# Altium footprint library WS-DITU.PcbLib: 6 footprints
Each footprint in its own frame and in the unit in brackets; x right, y up, seen from the top. Pads: shape width x height; smd on the part's side, far side on the other; paste and mask are expansions set on the pad; w line width, h text height; cw(c..) or ccw(c..) is an arc to the next point about the centre after c.
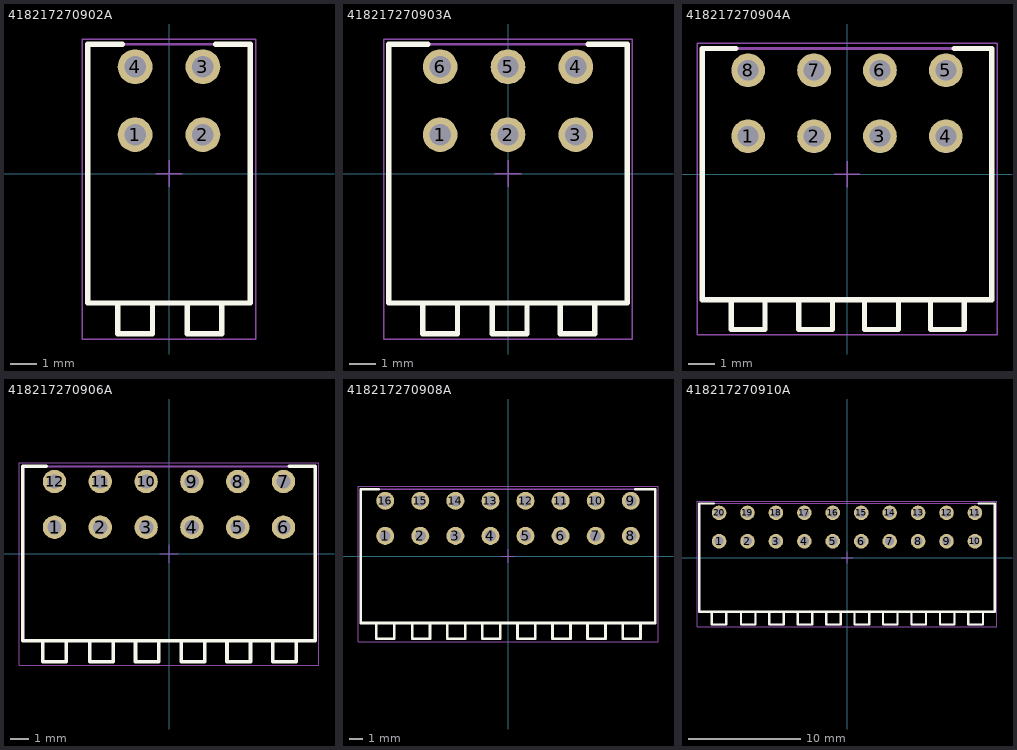
[diagram p0: the footprints below, top view; thin cyan lines are the x and y axes]

## 418217270902A [mm] "2.54 mm compact THT right angled DIP Switch with raised actuator, 2p"
height 9.9
pads (4):
  round 1.3 hole 0.8: 1(-1.27,1.46) 2(1.27,1.46) 3(1.27,4) 4(-1.27,4)
Top Overlay:
  lines w0.2: -1.92,-4.84 -1.92,-5.99 -0.62,-5.99 -0.62,-4.84 ; -1.74,4.84 -3.04,4.84 -3.04,-4.84 3.04,-4.84 3.04,4.84 1.74,4.84 ; 0.68,-4.84 0.68,-5.99 1.98,-5.99 1.98,-4.84
Top Designator:
  text ".Designator" at -7.498,-0.5 h1.5
Top Component Outline:
  lines w0.1: -1.92,-4.84 -1.92,-5.99 -0.62,-5.99 -0.62,-4.84 ; 0.68,-4.84 0.68,-5.99 1.98,-5.99 1.98,-4.84 ; -3.04,-4.84 3.04,-4.84 3.04,4.84 -3.04,4.84 -3.04,-4.84
Top Courtyard:
  lines w0.05: -0.5,0 0.5,0 ; 0,-0.5 0,0.5 ; -3.24,-6.19 -3.24,5.04 3.24,5.04 3.24,-6.19 -3.24,-6.19
3D body "418217270902A.stp": height 9.95, standoff -3.05, extent -3.04,-5.99 3.04,4.84

## 418217270903A [mm] "2.54 mm compact THT right angled DIP Switch with raised actuator, 3p"
height 9.9
pads (6):
  round 1.3 hole 0.8: 1(-2.54,1.46) 2(0,1.46) 3(2.54,1.46) 4(2.54,4) 5(0,4) 6(-2.54,4)
Top Overlay:
  lines w0.2: -3.19,-4.84 -3.19,-5.99 -1.89,-5.99 -1.89,-4.84 ; -3.01,4.84 -4.46,4.84 -4.46,-4.84 4.46,-4.84 4.46,4.84 3.01,4.84 ; -0.59,-4.84 -0.59,-5.99 0.71,-5.99 0.71,-4.84 ; 1.95,-4.84 1.95,-5.99 3.25,-5.99 3.25,-4.84
Top Designator:
  text ".Designator" at -7.498,-0.5 h1.5
Top Component Outline:
  lines w0.1: -3.19,-4.84 -3.19,-5.99 -1.89,-5.99 -1.89,-4.84 ; -0.59,-4.84 -0.59,-5.99 0.71,-5.99 0.71,-4.84 ; 1.95,-4.84 1.95,-5.99 3.25,-5.99 3.25,-4.84 ; -4.46,-4.84 -4.46,4.84 4.46,4.84 4.46,-4.84 -4.46,-4.84
Top Courtyard:
  lines w0.05: -0.5,0 0.5,0 ; 0,-0.5 0,0.5 ; -4.66,-6.19 4.66,-6.19 4.66,5.04 -4.66,5.04 -4.66,-6.19
3D body "418217270903A.stp": height 9.95, standoff -3.05, extent -4.46,-5.99 4.46,4.84

## 418217270904A [mm] "2.54 mm compact THT right angled DIP Switch with raised actuator, 4p"
height 9.9
pads (8):
  round 1.3 hole 0.8: 1(-3.81,1.46) 2(-1.27,1.46) 3(1.27,1.46) 4(3.81,1.46) 5(3.81,4) 6(1.27,4) 7(-1.27,4) 8(-3.81,4)
Top Overlay:
  lines w0.2: -4.46,-4.84 -4.46,-5.99 -3.16,-5.99 -3.16,-4.84 ; -4.28,4.84 -5.58,4.84 -5.58,-4.84 5.58,-4.84 5.58,4.84 4.13,4.84 ; -1.86,-4.84 -1.86,-5.99 -0.56,-5.99 -0.56,-4.84 ; 0.68,-4.84 0.68,-5.99 1.98,-5.99 1.98,-4.84 ; 3.22,-4.84 3.22,-5.99 4.52,-5.99 4.52,-4.84
Top Designator:
  text ".Designator" at -7.498,-0.5 h1.5
Top Component Outline:
  lines w0.1: -4.46,-4.84 -4.46,-5.99 -3.16,-5.99 -3.16,-4.84 ; -1.86,-4.84 -1.86,-5.99 -0.56,-5.99 -0.56,-4.84 ; 0.68,-4.84 0.68,-5.99 1.98,-5.99 1.98,-4.84 ; 3.22,-4.84 3.22,-5.99 4.52,-5.99 4.52,-4.84 ; -5.58,-4.84 5.58,-4.84 5.58,4.84 -5.58,4.84 -5.58,-4.84
Top Courtyard:
  lines w0.05: -0.5,0 0.5,0 ; 0,-0.5 0,0.5 ; -5.78,-6.19 -5.78,5.04 5.78,5.04 5.78,-6.19 -5.78,-6.19
3D body "418217270904A.stp": height 9.95, standoff -3.05, extent -5.58,-5.99 5.58,4.84

## 418217270906A [mm] "2.54 mm compact THT right angled DIP Switch with raised actuator, 6p"
height 9.9
pads (12):
  round 1.3 hole 0.8: 1(-6.35,1.46) 2(-3.81,1.46) 3(-1.27,1.46) 4(1.27,1.46) 5(3.81,1.46) 6(6.35,1.46) 7(6.35,4) 8(3.81,4) 9(1.27,4) 10(-1.27,4) 11(-3.81,4) 12(-6.35,4)
Top Overlay:
  lines w0.2: -7,-4.84 -7,-5.99 -5.7,-5.99 -5.7,-4.84 ; -6.82,4.84 -8.12,4.84 -8.12,-4.84 8.12,-4.84 8.12,4.84 6.67,4.84 ; -4.4,-4.84 -4.4,-5.99 -3.1,-5.99 -3.1,-4.84 ; -1.86,-4.84 -1.86,-5.99 -0.56,-5.99 -0.56,-4.84 ; 0.68,-4.84 0.68,-5.99 1.98,-5.99 1.98,-4.84 ; 3.22,-4.84 3.22,-5.99 4.52,-5.99 4.52,-4.84 ; 5.76,-4.84 5.76,-5.99 7.06,-5.99 7.06,-4.84
Top Designator:
  text ".Designator" at -7.498,-0.5 h1.5
Top Component Outline:
  lines w0.1: -7,-4.84 -7,-5.99 -5.7,-5.99 -5.7,-4.84 ; -4.4,-4.84 -4.4,-5.99 -3.1,-5.99 -3.1,-4.84 ; -1.86,-4.84 -1.86,-5.99 -0.56,-5.99 -0.56,-4.84 ; 0.68,-4.84 0.68,-5.99 1.98,-5.99 1.98,-4.84 ; 3.22,-4.84 3.22,-5.99 4.52,-5.99 4.52,-4.84 ; 5.76,-4.84 5.76,-5.99 7.06,-5.99 7.06,-4.84 ; -8.12,-4.84 -8.12,4.84 8.12,4.84 8.12,-4.84 -8.12,-4.84
Top Courtyard:
  lines w0.05: -0.5,0 0.5,0 ; 0,-0.5 0,0.5 ; -8.32,-6.19 8.32,-6.19 8.32,5.04 -8.32,5.04 -8.32,-6.19
3D body "418217270906A.stp": height 9.95, standoff -3.05, extent -8.12,-5.99 8.12,4.84

## 418217270908A [mm] "2.54 mm compact THT right angled DIP Switch with raised actuator, 8p"
height 9.9
pads (16):
  round 1.3 hole 0.8: 1(-8.89,1.46) 2(-6.35,1.46) 3(-3.81,1.46) 4(-1.27,1.46) 5(1.27,1.46) 6(3.81,1.46) 7(6.35,1.46) 8(8.89,1.46) 9(8.89,4) 10(6.35,4) 11(3.81,4) 12(1.27,4) 13(-1.27,4) 14(-3.81,4) 15(-6.35,4) 16(-8.89,4)
Top Overlay:
  lines w0.2: -9.54,-4.84 -9.54,-5.99 -8.24,-5.99 -8.24,-4.84 ; -9.36,4.84 -10.66,4.84 -10.66,-4.84 10.66,-4.84 10.66,4.84 9.21,4.84 ; -6.94,-4.84 -6.94,-5.99 -5.64,-5.99 -5.64,-4.84 ; -4.4,-4.84 -4.4,-5.99 -3.1,-5.99 -3.1,-4.84 ; -1.86,-4.84 -1.86,-5.99 -0.56,-5.99 -0.56,-4.84 ; 0.68,-4.84 0.68,-5.99 1.98,-5.99 1.98,-4.84 ; 3.22,-4.84 3.22,-5.99 4.52,-5.99 4.52,-4.84 ; 5.76,-4.84 5.76,-5.99 7.06,-5.99 7.06,-4.84 ; 8.3,-4.84 8.3,-5.99 9.6,-5.99 9.6,-4.84
Top Designator:
  text ".Designator" at -7.498,-0.5 h1.5
Top Component Outline:
  lines w0.1: -9.54,-4.84 -9.54,-5.99 -8.24,-5.99 -8.24,-4.84 ; -6.94,-4.84 -6.94,-5.99 -5.64,-5.99 -5.64,-4.84 ; -4.4,-4.84 -4.4,-5.99 -3.1,-5.99 -3.1,-4.84 ; -1.86,-4.84 -1.86,-5.99 -0.56,-5.99 -0.56,-4.84 ; 0.68,-4.84 0.68,-5.99 1.98,-5.99 1.98,-4.84 ; 3.22,-4.84 3.22,-5.99 4.52,-5.99 4.52,-4.84 ; 5.76,-4.84 5.76,-5.99 7.06,-5.99 7.06,-4.84 ; 8.3,-4.84 8.3,-5.99 9.6,-5.99 9.6,-4.84 ; -10.66,-4.84 10.66,-4.84 10.66,4.84 -10.66,4.84 -10.66,-4.84
Top Courtyard:
  lines w0.05: -0.5,0 0.5,0 ; 0,-0.5 0,0.5 ; -10.86,-6.19 -10.86,5.04 10.86,5.04 10.86,-6.19 -10.86,-6.19
3D body "418217270908A.stp": height 9.95, standoff -3.05, extent -10.66,-5.99 10.66,4.84

## 418217270910A [mm] "2.54 mm compact THT right angled DIP Switch with raised actuator, 10p"
height 9.9
pads (20):
  round 1.3 hole 0.8: 1(-11.43,1.46) 2(-8.89,1.46) 3(-6.35,1.46) 4(-3.81,1.46) 5(-1.27,1.46) 6(1.27,1.46) 7(3.81,1.46) 8(6.35,1.46) 9(8.89,1.46) 10(11.43,1.46) 11(11.43,4) 12(8.89,4) 13(6.35,4) 14(3.81,4) 15(1.27,4) 16(-1.27,4) 17(-3.81,4) 18(-6.35,4) 19(-8.89,4) 20(-11.43,4)
Top Overlay:
  lines w0.2: -12.08,-4.84 -12.08,-5.99 -10.78,-5.99 -10.78,-4.84 ; -11.9,4.84 -13.2,4.84 -13.2,-4.84 13.2,-4.84 13.2,4.84 11.75,4.84 ; -9.48,-4.84 -9.48,-5.99 -8.18,-5.99 -8.18,-4.84 ; -6.94,-4.84 -6.94,-5.99 -5.64,-5.99 -5.64,-4.84 ; -4.4,-4.84 -4.4,-5.99 -3.1,-5.99 -3.1,-4.84 ; -1.86,-4.84 -1.86,-5.99 -0.56,-5.99 -0.56,-4.84 ; 0.68,-4.84 0.68,-5.99 1.98,-5.99 1.98,-4.84 ; 3.22,-4.84 3.22,-5.99 4.52,-5.99 4.52,-4.84 ; 5.76,-4.84 5.76,-5.99 7.06,-5.99 7.06,-4.84 ; 8.3,-4.84 8.3,-5.99 9.6,-5.99 9.6,-4.84 ; 10.84,-4.84 10.84,-5.99 12.14,-5.99 12.14,-4.84
Top Designator:
  text ".Designator" at -7.498,-0.5 h1.5
Top Component Outline:
  lines w0.1: -12.08,-4.84 -12.08,-5.99 -10.78,-5.99 -10.78,-4.84 ; -9.48,-4.84 -9.48,-5.99 -8.18,-5.99 -8.18,-4.84 ; -6.94,-4.84 -6.94,-5.99 -5.64,-5.99 -5.64,-4.84 ; -4.4,-4.84 -4.4,-5.99 -3.1,-5.99 -3.1,-4.84 ; -1.86,-4.84 -1.86,-5.99 -0.56,-5.99 -0.56,-4.84 ; 0.68,-4.84 0.68,-5.99 1.98,-5.99 1.98,-4.84 ; 3.22,-4.84 3.22,-5.99 4.52,-5.99 4.52,-4.84 ; 5.76,-4.84 5.76,-5.99 7.06,-5.99 7.06,-4.84 ; 8.3,-4.84 8.3,-5.99 9.6,-5.99 9.6,-4.84 ; 10.84,-4.84 10.84,-5.99 12.14,-5.99 12.14,-4.84 ; -13.2,-4.84 -13.2,4.84 13.2,4.84 13.2,-4.84 -13.2,-4.84
Top Courtyard:
  lines w0.05: -0.5,0 0.5,0 ; 0,-0.5 0,0.5 ; -13.4,-6.19 13.4,-6.19 13.4,5.04 -13.4,5.04 -13.4,-6.19
3D body "418217270910A.stp": height 9.95, standoff -3.05, extent -13.2,-5.99 13.2,4.84